# Altium schematic symbol library Diode.SchLib: 10 symbols
Pins are listed as number, name and electrical type; pins without a type are passive.

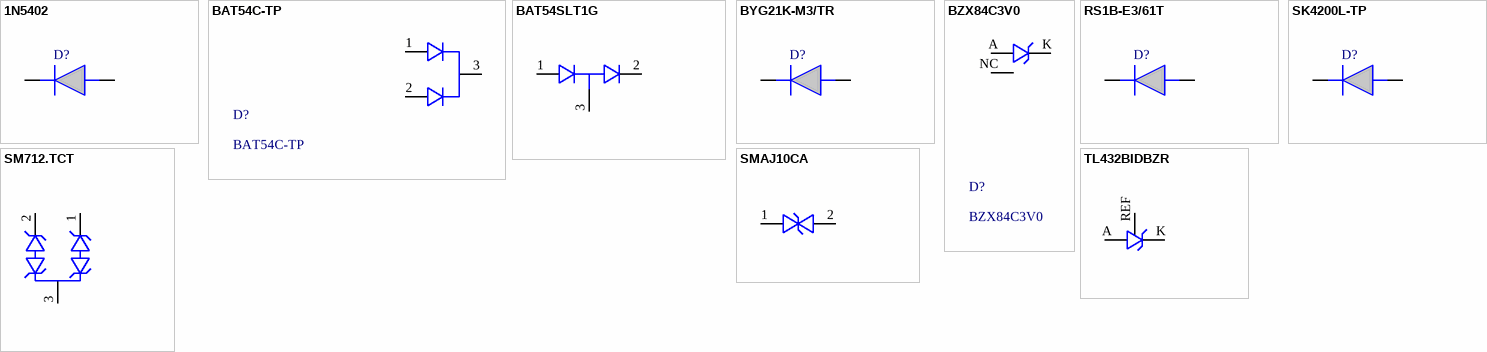
[diagram p0: symbols 1N5402 to TL432BIDBZR]

## 1N5402
designator D?
Rectifiers 200V 3A Standard; Manufacturer_Name: onsemi; Manufacturer_Part_Number: 1N5402; Mouser Part Number: 512-1N5402; Mouser Price/Stock: http://www.mouser.com/Search/ProductDetail.aspx?qs=sHoWRx6oyuaXdVH8OQCI2w%3d%3d; Arrow Part Number: 1N5402; Arrow Price/Stock: https://www.arrow.com/en/products/1n5402/on-semiconductor; Mouser Testing Part Number: *; Mouser Testing Price/Stock: *; Datasheet Link: http://www.onsemi.com/pub/Collateral/1N5400-D.PDF
footprint DIOAD2860W130L840D505
footprint DIOAD2860W130L840D505
pins: 1 K, 2 A

## BAT54C-TP
designator D?
Schottky Diodes & Rectifiers 30V 200mA 0.6A 200mW 2.0uA 10pF
footprint BAT54CTP
pins: 1, 2, 3 K

## BAT54SLT1G
designator D?
RLBAT54SLT1G ON Semiconductor BAT54SLT1G Rectifier Diode, 0.2A, 30V, 3-Pin SOT-23; Manufacturer_Name: onsemi; Geometry.Height: 1.11mm; Manufacturer_Part_Number: BAT54SLT1G; Mouser Part Number: 863-BAT54SLT1G; Mouser Price/Stock: https://www.mouser.co.uk/ProductDetail/onsemi/BAT54SLT1G?qs=vLkC5FC1VN9oCh8qaBIZiQ%3D%3D; Arrow Part Number: BAT54SLT1G; Arrow Price/Stock: https://www.arrow.com/en/products/bat54slt1g/on-semiconductor?region=nac; Mouser Testing Part Number: *; Mouser Testing Price/Stock: *; Datasheet Link: http://www.onsemi.com/pub/Collateral/BAT54SLT1-D.PDF
footprint SOT96P237X111-3N
footprint SOT96P237X111-3N
pins: 1, 2, 3 K

## BYG21K-M3/TR
designator D?
Diode Avalanche 800V 1.5A Surface Mount DO-214AC (SMA); Manufacturer_Name: Micro Commercial Components (MCC); Manufacturer_Part_Number: SK4200L-TP; Geometry.Height: 2.62mm; Mouser Part Number: 833-SK4200L-TP; Mouser Price/Stock: https://www.mouser.co.uk/ProductDetail/Micro-Commercial-Components-MCC/SK4200L-TP?qs=SdqRYZZ9IxB7oFNVH6Vt7Q%3D%3D; Arrow Part Number: SK4200L-TP; Arrow Price/Stock: https://www.arrow.com/en/products/sk4200l-tp/micro-commercial-components; Mouser Testing Part Number: *; Mouser Testing Price/Stock: *; Datasheet Link: https://www.arrow.com/en/products/sk4200l-tp/micro-commercial-components
footprint DIOM7959X262N
footprint DIOM7959X262N
pins: 1 K, 2 A

## BZX84C3V0
designator D?
350mW SURFACE MOUNT ZENER DIODE; Package: None; Price: None; Value: *; MP: BZX84C3V0; Availability: Unavailable
footprint SOT91P240X110-3N
footprint SOT91P240X110-3N
pins: A, K, NC 2

## RS1B-E3/61T
designator D?
Diode Standard 100 V 1A Surface Mount DO-214AC (SMA); Manufacturer_Name: Micro Commercial Components (MCC); Manufacturer_Part_Number: SK4200L-TP; Geometry.Height: 2.62mm; Mouser Part Number: 833-SK4200L-TP; Mouser Price/Stock: https://www.mouser.co.uk/ProductDetail/Micro-Commercial-Components-MCC/SK4200L-TP?qs=SdqRYZZ9IxB7oFNVH6Vt7Q%3D%3D; Arrow Part Number: SK4200L-TP; Arrow Price/Stock: https://www.arrow.com/en/products/sk4200l-tp/micro-commercial-components; Mouser Testing Part Number: *; Mouser Testing Price/Stock: *; Datasheet Link: https://www.arrow.com/en/products/sk4200l-tp/micro-commercial-components
footprint DIOM7959X262N
footprint DIOM7959X262N
pins: 1 K, 2 A

## SK4200L-TP
designator D?
Rectifier Diode Schottky 200V 4A 35ns 2-Pin SMC T/R; Manufacturer_Name: Micro Commercial Components (MCC); Geometry.Height: 2.62mm; Manufacturer_Part_Number: SK4200L-TP; Mouser Part Number: 833-SK4200L-TP; Mouser Price/Stock: https://www.mouser.co.uk/ProductDetail/Micro-Commercial-Components-MCC/SK4200L-TP?qs=SdqRYZZ9IxB7oFNVH6Vt7Q%3D%3D; Arrow Part Number: SK4200L-TP; Arrow Price/Stock: https://www.arrow.com/en/products/sk4200l-tp/micro-commercial-components; Mouser Testing Part Number: *; Mouser Testing Price/Stock: *; Datasheet Link: https://www.arrow.com/en/products/sk4200l-tp/micro-commercial-components
footprint DIOM7959X262N
footprint DIOM7959X262N
pins: 1 K, 2 A

## SM712.TCT
designator D?  Supplier Part Number 1: 6910811
12V TVS Diode Array, Asymmetrical RS-485 Semtech SM712.TCT, Bi-Directional TVS Diode Array Dual, 26V, 400W, 3-Pin SOT-23; Geometry.Height: 1.12mm; Manufacturer_Name: SEMTECH; Manufacturer_Part_Number: SM712.TCT; Mouser Part Number: 947-SM712.TCT; Mouser Price/Stock: https://www.mouser.co.uk/ProductDetail/Semtech/SM712.TCT?qs=rBWM4%252BvDhIfYU4k7Soov1w%3D%3D; Arrow Part Number: SM712.TCT; Arrow Price/Stock: https://www.arrow.com/en/products/sm712.tct/semtech?region=nac; Mouser Testing Part Number: *; Mouser Testing Price/Stock: *; Datasheet Link: https://datasheet.datasheetarchive.com/originals/distributors/Datasheets-30/DSA-588511.pdf; Supplier 1: RSComponents
footprint SOT95P237X112-3N - duplicate
pins: 1, 2, 3

## SMAJ10CA
designator D?
ESD Suppressors / TVS Diodes 400W 10V 5% Bi-Directional ESD Suppressors / TVS Diodes 400W 60V 5% Bi-Directional; Manufacturer_Name: LITTELFUSE; Geometry.Height: 2.29mm; Manufacturer_Part_Number: SMAJ10CA; Mouser Part Number: 576-SMAJ10CA; Mouser Price/Stock: https://www.mouser.co.uk/ProductDetail/Littelfuse/SMAJ10CA?qs=HR2RnyOI4E6vSKXNVUMgrg%3D%3D; Arrow Part Number: SMAJ10CA; Arrow Price/Stock: https://www.arrow.com/en/products/smaj10ca/littelfuse; Mouser Testing Part Number: *; Mouser Testing Price/Stock: *; Datasheet Link: https://docs.rs-online.com/73d0/0900766b81627558.pdf
footprint DIONM5026X229N
footprint DIONM5026X229N
pins: 1, 2

## TL432BIDBZR
designator B?
Adjustable Precision Shunt Regulator; Manufacturer_Name: Texas Instruments; Geometry.Height: 1.12mm; Manufacturer_Part_Number: TL432BIDBZR; Mouser Part Number: 595-TL432BIDBZR; Mouser Price/Stock: https://www.mouser.com/Search/Refine.aspx?Keyword=595-TL432BIDBZR; Arrow Part Number: TL432BIDBZR; Arrow Price/Stock: https://www.arrow.com/en/products/tl432bidbzr/texas-instruments; Mouser Testing Part Number: *; Mouser Testing Price/Stock: *; Datasheet Link: https://datasheet.datasheetarchive.com/originals/distributors/Datasheets-SFU2/DSASFU100034171.pdf
footprint SOT95P237X112-3N
footprint SOT95P237X112-3N
pins: A, K, REF